# Altium schematic symbol library FPGA OSC.SchLib: 1 symbol
Pins are listed as number, name and electrical type; pins without a type are passive.

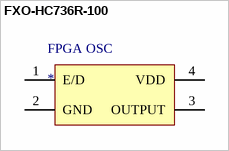
[diagram p0: symbol FXO-HC736R-100]

## FXO-HC736R-100
designator FPGA OSC
footprint FPGA-OSC
pins: 1 E/D, 2 GND, 3 OUTPUT, 4 VDD